# Altium footprint library MC-IMX6UL-DK v1.1.PcbLib: 48 footprints (part 2 of 3)
Each footprint in its own frame and in the unit in brackets; x right, y up, seen from the top. Pads: shape width x height; smd on the part's side, far side on the other; paste and mask are expansions set on the pad; w line width, h text height; cw(c..) or ccw(c..) is an arc to the next point about the centre after c.
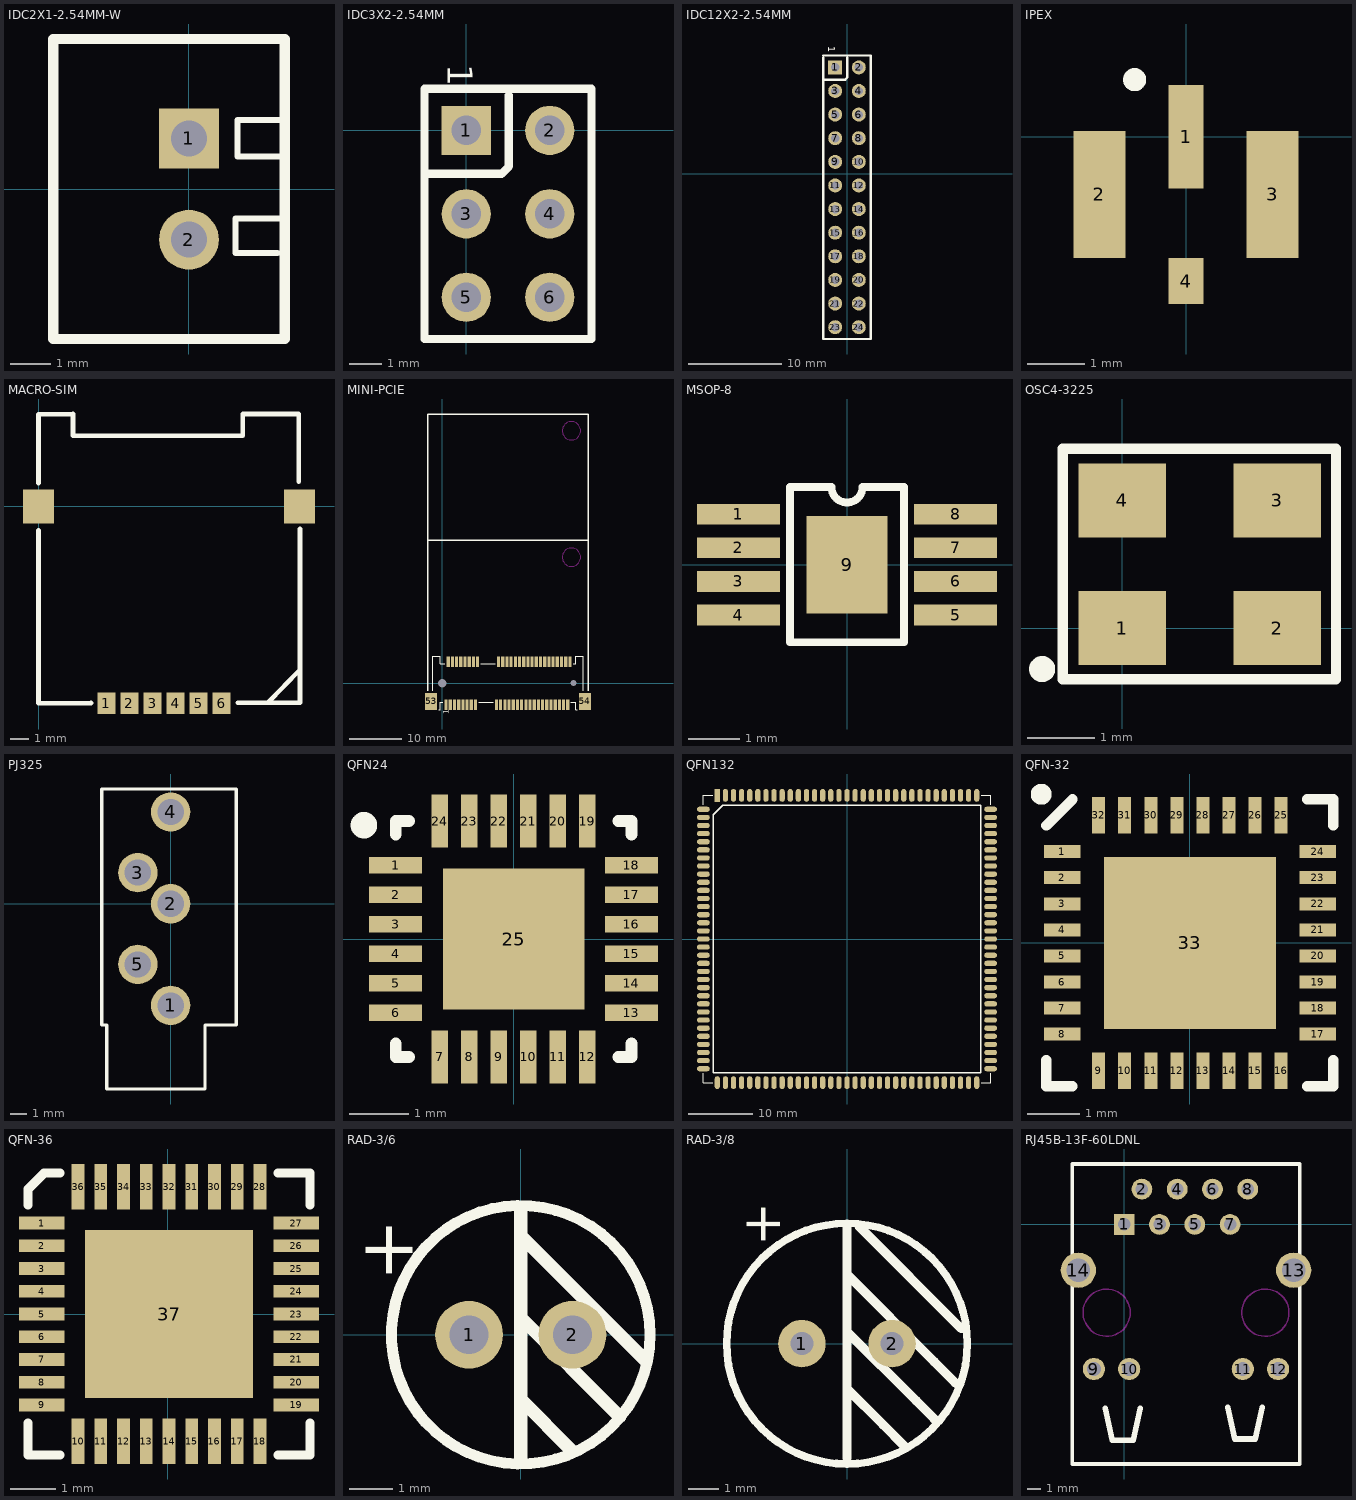
[diagram p1: the footprints below, top view; thin cyan lines are the x and y axes]

## IDC2X1-2.54MM-W [mm]
pads (2):
  rect 1.5x1.5 hole 0.9: 1(0,1.27)
  round 1.5 hole 0.9: 2(0,-1.27)
Top Overlay:
  lines w0.152: 2.222,-1.6 1.168,-1.6 1.168,-0.737 2.349,-0.737 ; 2.273,0.813 1.219,0.813 1.219,1.727 2.4,1.727
  lines w0.254: -3.4,-3.76 -3.4,3.76 2.4,3.76 2.4,-3.76 -3.4,-3.76

## IDC3X2-2.54MM [mm]
pads (6):
  rect 1.5x1.5 hole 0.9: 1(0,0)
  round 1.5 hole 0.9: 2(2.54,0) 3(0,-2.54) 4(2.54,-2.54) 5(0,-5.08) 6(2.54,-5.08)
Top Overlay:
  lines w0.254: -1.208,-1.32 1.072,-1.32 1.296,-1.096 1.296,1.064 ; -1.27,-6.35 -1.27,1.27 3.81,1.27 3.81,-6.35 -1.27,-6.35
  text "1" at -0.559,2.021 h0.76

## IDC12X2-2.54MM [mm]
pads (24):
  rect 1.5x1.5 hole 0.9: 1(-1.27,11.43)
  round 1.5 hole 0.9: 2(1.27,11.43) 3(-1.27,8.89) 4(1.27,8.89) 5(-1.27,6.35) 6(1.27,6.35) 7(-1.27,3.81) 8(1.27,3.81) 9(-1.27,1.27) 10(1.27,1.27) 11(-1.27,-1.27) 12(1.27,-1.27) 13(-1.27,-3.81) 14(1.27,-3.81) 15(-1.27,-6.35) 16(1.27,-6.35) 17(-1.27,-8.89) 18(1.27,-8.89) 19(-1.27,-11.43) 20(1.27,-11.43) 21(-1.27,-13.97) 22(1.27,-13.97) 23(-1.27,-16.51) 24(1.27,-16.51)
Top Overlay:
  lines w0.254: -2.54,12.494 -2.54,-7.62 -2.54,-17.78 2.54,-17.78 2.54,-7.62 2.54,12.7 -2.54,12.7 ; -2.478,10.11 -0.198,10.11 0.026,10.334 0.026,12.494
  text "1" at -2.032,13.716 h0.76

## IPEX [mm]
height 4.064
pads (4):
  rect 0.6x1.8 smd: 1(0,0)
  rect 0.9x2.2 smd: 2(-1.5,-1) 3(1.5,-1)
  rect 0.6x0.8 smd: 4(0,-2.5)
Top Overlay:
  circle w0.2: c-0.891,0.991 r0.1

## MACRO-SIM [mm]
pads (8):
  rect 1x1.2 smd: 1(3.75,-10.86) 2(5.02,-10.86) 3(6.29,-10.86) 4(7.56,-10.86) 5(8.83,-10.86) 6(10.1,-10.86)
  rect 1.7x1.9 smd: ""(0,-0.01) ""(14.4,-0.01)
Top Overlay:
  lines w0.254: 0,-1.331 0,-10.86 2.896,-10.856 ; 0,1.285 0,5.09 1.905,5.095 1.905,3.902 11.278,3.902 11.278,5.095 14.351,5.095 14.351,1.362 ; 10.998,-10.83 14.427,-10.83 14.427,-1.229 ; 12.649,-10.83 14.427,-9.027

## MINI-PCIE [mm]
pads (56):
  rect 0.6x2 smd: 1(0.7,-4.1) 2(1.1,4.1) 3(1.5,-4.1) 4(1.9,4.1) 5(2.3,-4.1) 6(2.7,4.1) 7(3.1,-4.1) 8(3.5,4.1) 9(3.9,-4.1) 10(4.3,4.1) 11(4.7,-4.1) 12(5.1,4.1) 13(5.5,-4.1) 14(5.9,4.1) 15(6.3,-4.1) 16(6.7,4.1) 17(10.3,-4.1) 18(10.7,4.1) 19(11.1,-4.1) 20(11.5,4.1) 21(11.9,-4.1) 22(12.3,4.1) 23(12.7,-4.1) 24(13.1,4.1) 25(13.5,-4.1) 26(13.9,4.1) 27(14.3,-4.1) 28(14.7,4.1) 29(15.1,-4.1) 30(15.5,4.1) 31(15.9,-4.1) 32(16.3,4.1) 33(16.7,-4.1) 34(17.1,4.1) 35(17.5,-4.1) 36(17.9,4.1) 37(18.3,-4.1) 38(18.7,4.1) 39(19.1,-4.1) 40(19.5,4.1) 41(19.9,-4.1) 42(20.3,4.1) 43(20.7,-4.1) 44(21.1,4.1) 45(21.5,-4.1) 46(21.9,4.1) 47(22.3,-4.1) 48(22.7,4.1) 49(23.1,-4.1) 50(23.5,4.1) 51(23.9,-4.1) 52(24.3,4.1)
  rect 2.3x3.2 smd: 53(-2.15,-3.5) 54(27.15,-3.5)
  rrect70% 0x0 hole 1.6: 55(0,0)
  rrect70% 0x0 hole 1.1: 56(25,0)
Top Overlay:
  lines w0.2: -1.8,-1.5 -1.8,5.1 -0.4,5.1 -0.4,3.7 0.4,3.7 ; -0.7,-5.1 -0.4,-5.1 -0.4,-3.7 0.1,-3.7 ; 6.9,-3.7 9.7,-3.7 ; 7.3,3.7 10.1,3.7 ; 24.5,-3.7 25.4,-3.7 25.4,-5.1 25.7,-5.1 ; 24.9,3.7 25.4,3.7 25.4,5.1 26.8,5.1 26.8,-1.5
  lines w0.254: -2.8,-1.5 -2.8,51.3 -2.3,51.3 27.8,51.3 27.8,-1.5 ; -2.8,27.2 27.8,27.2
  text "1" at 1.2,-5.9 h1.02
Keep-Out Layer:
  circle w0.203: c24.6,24 r1.75
  circle w0.203: c24.6,48.1 r1.75

## MSOP-8 [mm]
pads (9):
  rect 1.6x0.4 smd: 1(-2.1,0.975) 2(-2.1,0.325) 3(-2.1,-0.325) 4(-2.1,-0.975) 5(2.1,-0.975) 6(2.1,-0.325) 7(2.1,0.325) 8(2.1,0.975)
  rect 1.57x1.89 smd: 9(0,0)
Top Overlay:
  lines w0.15: -1.1,-1.5 -1.1,1.5 -0.3,1.5 ccw(c0,1.5) 0.3,1.5 1.1,1.5 1.1,-1.5 -1.1,-1.5

## OSC4-3225 [mm]
pads (4):
  rect 1.3x1.1 smd: 1(0,0) 2(2.3,0) 3(2.3,1.9) 4(0,1.9)
Top Overlay:
  circle w0.203: c-1.194,-0.61 r0.092
  lines w0.152: -0.889,-0.762 3.175,-0.762 3.175,2.667 -0.889,2.667 -0.889,-0.762

## PJ325 [mm]
pads (5):
  round 2.4 hole 1.6: 1(0,-6.2) 2(0,0) 3(-2,1.9) 4(0,5.6) 5(-2,-3.7)
Top Overlay:
  lines w0.2: -4.2,-7.4 -3.9,-7.4 -3.9,-11.3 2.1,-11.3 2.1,-7.4 4,-7.4 4,7 1.1,7 -4.2,7 -4.2,-7.4

## QFN24 [mm] "QFN, 24-Leads, Body 4.00x4.00mm, Pitch 0.50mm, Thermal Pad 2.40x2.40mm, IPC Medium Density"
height 0.9
pads (25):
  rect 0.9x0.28 smd: 1(-2,1.25) 2(-2,0.75) 3(-2,0.25) 4(-2,-0.25) 5(-2,-0.75) 6(-2,-1.25) 13(2,-1.25) 14(2,-0.75) 15(2,-0.25) 16(2,0.25) 17(2,0.75) 18(2,1.25)
  rect 0.28x0.9 smd: 7(-1.25,-2) 8(-0.75,-2) 9(-0.25,-2) 10(0.25,-2) 11(0.75,-2) 12(1.25,-2) 19(1.25,2) 20(0.75,2) 21(0.25,2) 22(-0.25,2) 23(-0.75,2) 24(-1.25,2)
  rect 2.4x2.4 smd: 25(0,0)
Top Overlay:
  circle w0.25: c-2.54,1.93 r0.1
  lines w0.2: -2,-1.775 -2,-2 -1.775,-2 ; -2,1.775 -2,2 -1.775,2 ; 1.775,-2 2,-2 2,-1.775 ; 1.775,2 2,2 2,1.775

## QFN132 [mm]
pads (132):
  rect 0.82x2 smd: 1(-20.32,22.5)
  oval 0.82x2 smd: 2(-19.05,22.5) 3(-17.78,22.5) 4(-16.51,22.5) 5(-15.24,22.5) 6(-13.97,22.5) 7(-12.7,22.5) 8(-11.43,22.5) 9(-10.16,22.5) 10(-8.89,22.5) 11(-7.62,22.5) 12(-6.35,22.5) 13(-5.08,22.5) 14(-3.81,22.5) 15(-2.54,22.5) 16(-1.27,22.5) 17(0,22.5) 18(1.27,22.5) 19(2.54,22.5) 20(3.81,22.5) 21(5.08,22.5) 22(6.35,22.5) 23(7.62,22.5) 24(8.89,22.5) 25(10.16,22.5) 26(11.43,22.5) 27(12.7,22.5) 28(13.97,22.5) 29(15.24,22.5) 30(16.51,22.5) 31(17.78,22.5) 32(19.05,22.5) 33(20.32,22.5) 67(20.32,-22.5) 68(19.05,-22.5) 69(17.78,-22.5) 70(16.51,-22.5) 71(15.24,-22.5) 72(13.97,-22.5) 73(12.7,-22.5) 74(11.43,-22.5) 75(10.16,-22.5) 76(8.89,-22.5) 77(7.62,-22.5) 78(6.35,-22.5) 79(5.08,-22.5) 80(3.81,-22.5) 81(2.54,-22.5) 82(1.27,-22.5) 83(0,-22.5) 84(-1.27,-22.5) 85(-2.54,-22.5) 86(-3.81,-22.5) 87(-5.08,-22.5) 88(-6.35,-22.5) 89(-7.62,-22.5) 90(-8.89,-22.5) 91(-10.16,-22.5) 92(-11.43,-22.5) 93(-12.7,-22.5) 94(-13.97,-22.5) 95(-15.24,-22.5) 96(-16.51,-22.5) 97(-17.78,-22.5) 98(-19.05,-22.5) 99(-20.32,-22.5)
  oval 2x0.82 smd: 34(22.5,20.32) 35(22.5,19.05) 36(22.5,17.78) 37(22.5,16.51) 38(22.5,15.24) 39(22.5,13.97) 40(22.5,12.7) 41(22.5,11.43) 42(22.5,10.16) 43(22.5,8.89) 44(22.5,7.62) 45(22.5,6.35) 46(22.5,5.08) 47(22.5,3.81) 48(22.5,2.54) 49(22.5,1.27) 50(22.5,0) 51(22.5,-1.27) 52(22.5,-2.54) 53(22.5,-3.81) 54(22.5,-5.08) 55(22.5,-6.35) 56(22.5,-7.62) 57(22.5,-8.89) 58(22.5,-10.16) 59(22.5,-11.43) 60(22.5,-12.7) 61(22.5,-13.97) 62(22.5,-15.24) 63(22.5,-16.51) 64(22.5,-17.78) 65(22.5,-19.05) 66(22.5,-20.32) 100(-22.5,-20.32) 101(-22.5,-19.05) 102(-22.5,-17.78) 103(-22.5,-16.51) 104(-22.5,-15.24) 105(-22.5,-13.97) 106(-22.5,-12.7) 107(-22.5,-11.43) 108(-22.5,-10.16) 109(-22.5,-8.89) 110(-22.5,-7.62) 111(-22.5,-6.35) 112(-22.5,-5.08) 113(-22.5,-3.81) 114(-22.5,-2.54) 115(-22.5,-1.27) 116(-22.5,0) 117(-22.5,1.27) 118(-22.5,2.54) 119(-22.5,3.81) 120(-22.5,5.08) 121(-22.5,6.35) 122(-22.5,7.62) 123(-22.5,8.89) 124(-22.5,10.16) 125(-22.5,11.43) 126(-22.5,12.7) 127(-22.5,13.97) 128(-22.5,15.24) 129(-22.5,16.51) 130(-22.5,17.78) 131(-22.5,19.05) 132(-22.5,20.32)
Top Overlay:
  lines w0.127: -22.5,-21 -22.5,-22.5 -21,-22.5 ; -22.5,21 -22.5,22.5 -21,22.5 ; 21,-22.5 22.5,-22.5 22.5,-21 ; 21,22.5 22.5,22.5 22.5,21
  lines w0.2: -20.965,-20.965 -20.965,19.43 -19.43,20.965 20.965,20.965 20.965,-20.965 -20.965,-20.965

## QFN-32 [mm]
pads (33):
  rect 0.7x0.25 smd: 1(-2.45,1.75) 2(-2.45,1.25) 3(-2.45,0.75) 4(-2.45,0.25) 5(-2.45,-0.25) 6(-2.45,-0.75) 7(-2.45,-1.25) 8(-2.45,-1.75) 17(2.45,-1.75) 18(2.45,-1.25) 19(2.45,-0.75) 20(2.45,-0.25) 21(2.45,0.25) 22(2.45,0.75) 23(2.45,1.25) 24(2.45,1.75)
  rect 0.25x0.7 smd: 9(-1.75,-2.45) 10(-1.25,-2.45) 11(-0.75,-2.45) 12(-0.25,-2.45) 13(0.25,-2.45) 14(0.75,-2.45) 15(1.25,-2.45) 16(1.75,-2.45) 25(1.75,2.45) 26(1.25,2.45) 27(0.75,2.45) 28(0.25,2.45) 29(-0.25,2.45) 30(-0.75,2.45) 31(-1.25,2.45) 32(-1.75,2.45)
  rect 3.3x3.3 smd: 33(0,0)
Top Overlay:
  circle w0.2: c-2.85,2.85 r0.1
  lines w0.2: -2.75,-2.25 -2.75,-2.75 -2.25,-2.75 ; -2.75,2.25 -2.25,2.75 ; 2.25,-2.75 2.75,-2.75 2.75,-2.25 ; 2.25,2.75 2.75,2.75 2.75,2.25

## QFN-36 [mm]
pads (37):
  rect 1x0.28 smd: 1(-2.777,2) 2(-2.777,1.5) 3(-2.777,1) 4(-2.777,0.5) 5(-2.777,0) 6(-2.777,-0.5) 7(-2.777,-1) 8(-2.777,-1.5) 9(-2.777,-2) 19(2.823,-2) 20(2.823,-1.5) 21(2.823,-1) 22(2.823,-0.5) 23(2.823,0) 24(2.823,0.5) 25(2.823,1) 26(2.823,1.5) 27(2.823,2)
  rect 0.28x1 smd: 10(-1.977,-2.8) 11(-1.477,-2.8) 12(-0.977,-2.8) 13(-0.477,-2.8) 14(0.023,-2.8) 15(0.523,-2.8) 16(1.023,-2.8) 17(1.523,-2.8) 18(2.023,-2.8) 28(2.023,2.8) 29(1.523,2.8) 30(1.023,2.8) 31(0.523,2.8) 32(0.023,2.8) 33(-0.477,2.8) 34(-0.977,2.8) 35(-1.477,2.8) 36(-1.977,2.8)
  rect 3.7x3.7 smd: 37(0.023,0)
Top Overlay:
  lines w0.2: -3.077,-2.4 -3.077,-3.1 -2.377,-3.1 ; -3.077,2.4 -3.077,2.75 -2.727,3.1 -2.377,3.1 ; 2.423,-3.1 3.123,-3.1 3.123,-2.4 ; 2.423,3.1 3.123,3.1 3.123,2.4

## RAD-3/6 [mm]
pads (2):
  round 1.575 hole 0.9: 1(-1.2,0) 2(1.2,0)
Top Overlay:
  circle w0.254: c0,0 r3
  lines w0.305: 0,-2.9 0,2.9 ; 0,-1.5 1.2,-2.7 ; 0,0.4 2.3,-1.9 ; 0,2.3 2.9,-0.6
  text "+" at -3.592,2.692 h1.27

## RAD-3/8 [mil]
pads (2):
  round 62 hole 30: 1(-59,0) 2(59,0)
Top Overlay:
  circle w10: c0,0 r157.48
  lines w12: 0,-149.61 0,-114.17 0,114.17 0,153.54 ; 0,-59.05 47.24,-106.3 74.8,-133.86 ; 0,15.75 90.55,-74.8 114.17,-98.42 ; 0,90.55 114.17,-23.62 141.73,-51.18 ; 15.75,153.54 149.61,19.68
  text "+" at -131,185 h50

## RJ45B-13F-60LDNL [mm]
pads (14):
  rect 1.5x1.5 hole 0.9: 1(0,0)
  round 1.5 hole 0.9: 2(1.27,2.54) 3(2.54,0) 4(3.81,2.54) 5(5.08,0) 6(6.35,2.54) 7(7.62,0) 8(8.89,2.54)
  round 1.6 hole 1: 9(-2.185,-10.41) 10(0.355,-10.41) 11(8.535,-10.41) 12(11.075,-10.41)
  round 2.54 hole 1.7: 13(12.195,-3.3) 14(-3.305,-3.3)
Top Overlay:
  lines w0.254: -3.755,-17.25 12.645,-17.25 12.645,4.35 -3.755,4.35 -3.755,-17.25
  lines w0.4: -1.355,-13.25 -0.855,-15.55 0.645,-15.55 1.145,-13.25 ; 7.445,-13.15 7.945,-15.45 9.445,-15.45 9.945,-13.15
Keep-Out Layer:
  circle w0.1: c10.16,-6.35 r1.7
  circle w0.1: c-1.27,-6.35 r1.7